# EAGLE library part M06 (library dr-library)
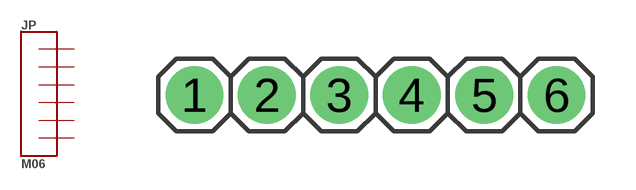
[diagram p14: symbol with the pads of 1X06; footprint 1X06]

Designator prefix JP

## M06  [1X06]
1  1
2  2
3  3
4  4
5  5
6  6

## Footprint 1X06 (pad centres in mm)
PIN HEADER
drill 1.016 pad 2.032: 1 -1.27,0; 2 1.27,0; 3 3.81,0; 4 6.35,0; 5 8.89,0; 6 11.43,0